# Altium schematic symbol library THS3201.SchLib: 1 symbol
Pins are listed as number, name and electrical type; pins without a type are passive.

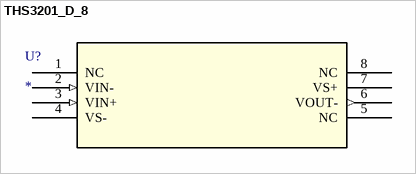
[diagram p0: symbol THS3201_D_8]

## THS3201_D_8
designator U?
1.8-GHz, LOW DISTORTION, CURRENT-FEEDBACK AMPLIFIER; Manufacturer_Part_Number: ths3201_d_8; GENERIC_PART_NUMBER: THS3201; Vendor: Texas Instruments; PACKAGE_DESIGNATOR: D; PIN_COUNT: 8; FAMILY_NAME: CURRENT FEEDBACK; INDUSTRY_STD_PKG_TYPE: SOIC; Manufacturer: Texas Instruments; Datasheet_URL: http://www.ti.com/lit/gpn/THS3201; Value: Value; Type: Type; RefDes: RefDes
footprint D8
pins: 1 NC, 2 VIN- (in), 3 VIN+ (in), 4 VS- (power), 5 NC, 6 VOUT- (out), 7 VS+ (power), 8 NC